# Altium footprint library MPT-02-6.30-XX-X-V.PcbLib: 2 footprints
Each footprint in its own frame and in the unit in brackets; x right, y up, seen from the top. Pads: shape width x height; smd on the part's side, far side on the other; paste and mask are expansions set on the pad; w line width, h text height; cw(c..) or ccw(c..) is an arc to the next point about the centre after c.
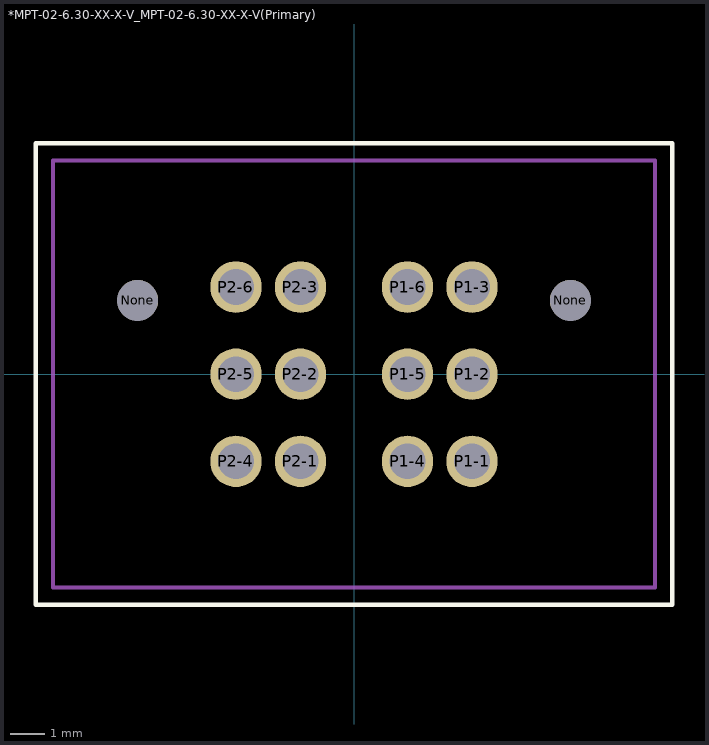
[diagram p0: the footprints below, top view; thin cyan lines are the x and y axes]

## *MPT-02-6.30-XX-X-V_MPT-02-6.30-XX-X-V(Primary) [mm]
pads (14):
  round 1.19 hole 1.19 unplated: None(-6.31,2.15) None(6.31,2.15)
  round 1.5 hole 1.04: P1-1(3.44,-2.54) P1-2(3.44,0) P1-3(3.44,2.54) P1-4(1.56,-2.54) P1-5(1.56,0) P1-6(1.56,2.54) P2-1(-1.56,-2.54) P2-2(-1.56,0) P2-3(-1.56,2.54) P2-4(-3.44,-2.54) P2-5(-3.44,0) P2-6(-3.44,2.54)
Top Overlay:
  lines w0.127: -9.275,-6.72 -9.275,6.73 9.275,6.73 9.275,-6.72 -9.275,-6.72
Mechanical 13:
  lines w0.127: -8.775,-6.22 -8.775,6.23 ; -8.775,-6.22 8.775,-6.22 ; -8.775,-6.22 -8.775,6.23 ; -8.775,-6.22 8.775,-6.22 ; -8.775,6.23 8.775,6.23 ; -8.775,6.23 8.775,6.23 ; 8.775,-6.22 8.775,6.23 ; 8.775,-6.22 8.775,6.23

## PCBComponent_1 [mm]